# EAGLE library part ESP32-WROOM-32D (library espressif)
ESP32-WROOM-32D and ESP32-WROOM-32U are powerful, generic Wi-Fi + Bluetooth + Bluetooth LE MCU modules that target a wide variety of applications, ranging from low-power sensor networks to the most demanding tasks, such as voice encoding, music streaming and MP3 decoding.
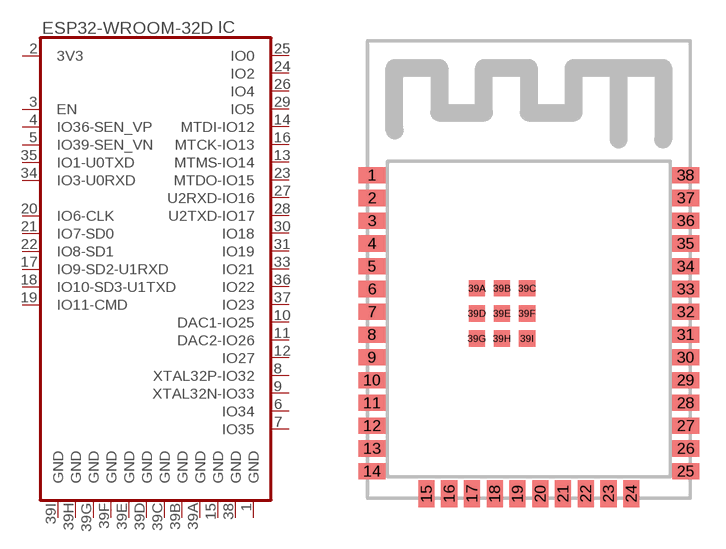
[diagram p0: symbol with the pads of WROOM-32D; footprint WROOM-32D]

Designator prefix IC

## ESP32-WROOM-32D  [WROOM-32D]
1  GND  pwr
2  3V3  in
3  EN  in
4  IO36-SEN_VP  in
5  IO39-SEN_VN  in
6  IO34
7  IO35
8  XTAL32P-IO32
9  XTAL32N-IO33
10  DAC1-IO25
11  DAC2-IO26
12  IO27
13  MTMS-IO14
14  MTDI-IO12
15  GND  pwr
16  MTCK-IO13
17  IO9-SD2-U1RXD
18  IO10-SD3-U1TXD
19  IO11-CMD
20  IO6-CLK
21  IO7-SD0
22  IO8-SD1
23  MTDO-IO15
24  IO2
25  IO0
26  IO4
27  U2RXD-IO16
28  U2TXD-IO17
29  IO5
30  IO18
31  IO19
33  IO21
34  IO3-U0RXD
35  IO1-U0TXD
36  IO22
37  IO23
38  GND  pwr
39A  GND  pwr
39B  GND  pwr
39C  GND  pwr
39D  GND  pwr
39E  GND  pwr
39F  GND  pwr
39G  GND  pwr
39H  GND  pwr
39I  GND  pwr

## Footprint WROOM-32D (pad centres in mm)
ESP32-­WROOM-­32D
smd 1.5 x 0.9: 1 -8.75,16.51; 2 -8.75,15.24; 3 -8.75,13.97; 4 -8.75,12.7; 5 -8.75,11.43; 6 -8.75,10.16; 7 -8.75,8.89; 8 -8.75,7.62; 9 -8.75,6.35; 10 -8.75,5.08; 11 -8.75,3.81; 12 -8.75,2.54; 13 -8.75,1.27; 14 -8.75,0; 25 8.75,0; 26 8.75,1.27; 27 8.75,2.54; 28 8.75,3.81; 29 8.75,5.08; 30 8.75,6.35; 31 8.75,7.62; 32 8.75,8.89; 33 8.75,10.16; 34 8.75,11.43; 35 8.75,12.7; 36 8.75,13.97; 37 8.75,15.24; 38 8.75,16.51
smd 0.9 x 1.5: 15 -5.715,-1.25; 16 -4.445,-1.25; 17 -3.175,-1.25; 18 -1.905,-1.25; 19 -0.635,-1.25; 20 0.635,-1.25; 21 1.905,-1.25; 22 3.175,-1.25; 23 4.445,-1.25; 24 5.715,-1.25
smd 0.9 x 0.9: 39A -2.9,10.2; 39B -1.5,10.2; 39C -0.1,10.2; 39D -2.9,8.8; 39E -1.5,8.8; 39F -0.1,8.8; 39G -2.9,7.4; 39H -1.5,7.4; 39I -0.1,7.4